# Altium footprint library SnapEDApcb.PcbLib: 1 footprints
Each footprint in its own frame and in the unit in brackets; x right, y up, seen from the top. Pads: shape width x height; smd on the part's side, far side on the other; paste and mask are expansions set on the pad; w line width, h text height; cw(c..) or ccw(c..) is an arc to the next point about the centre after c.
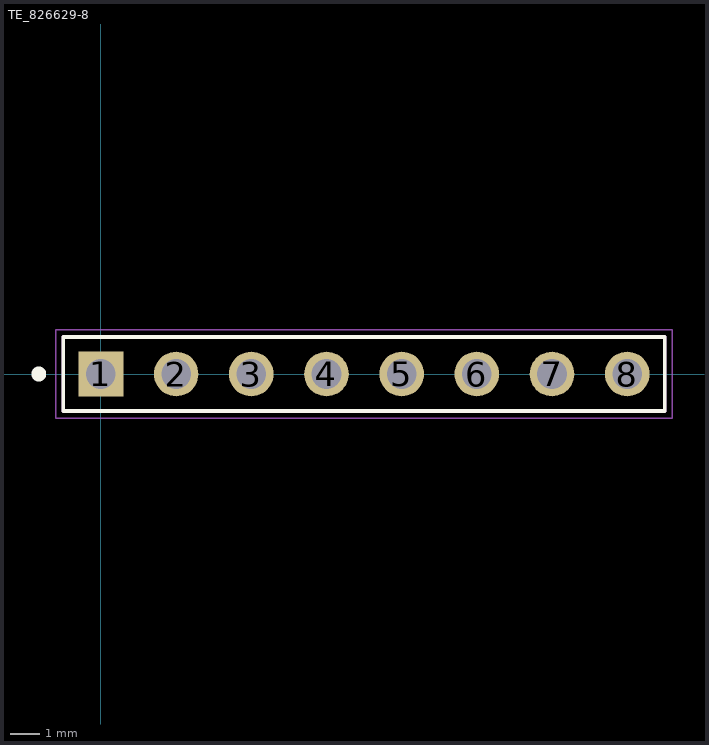
[diagram p0: the footprint, top view; thin cyan lines are the x and y axes]

## TE_826629-8 [mm]
pads (8):
  rect 1.508x1.508 hole 1: 1(0,0)
  round 1.508 hole 1: 2(2.54,0) 3(5.08,0) 4(7.62,0) 5(10.16,0) 6(12.7,0) 7(15.24,0) 8(17.78,0)
Top Overlay:
  circle w0.3: c-2.1,0 r0.1
  lines w0.127: -1.27,-1.25 19.05,-1.25 19.05,1.25 -1.27,1.25 -1.27,-1.25
Mechanical 13:
  lines w0.127: -1.27,-1.25 19.05,-1.25 19.05,1.25 -1.27,1.25 -1.27,-1.25
Mechanical 15:
  lines w0.05: -1.52,-1.5 19.3,-1.5 19.3,1.5 -1.52,1.5 -1.52,-1.5